# EAGLE library part MC1322X (library Railstars)
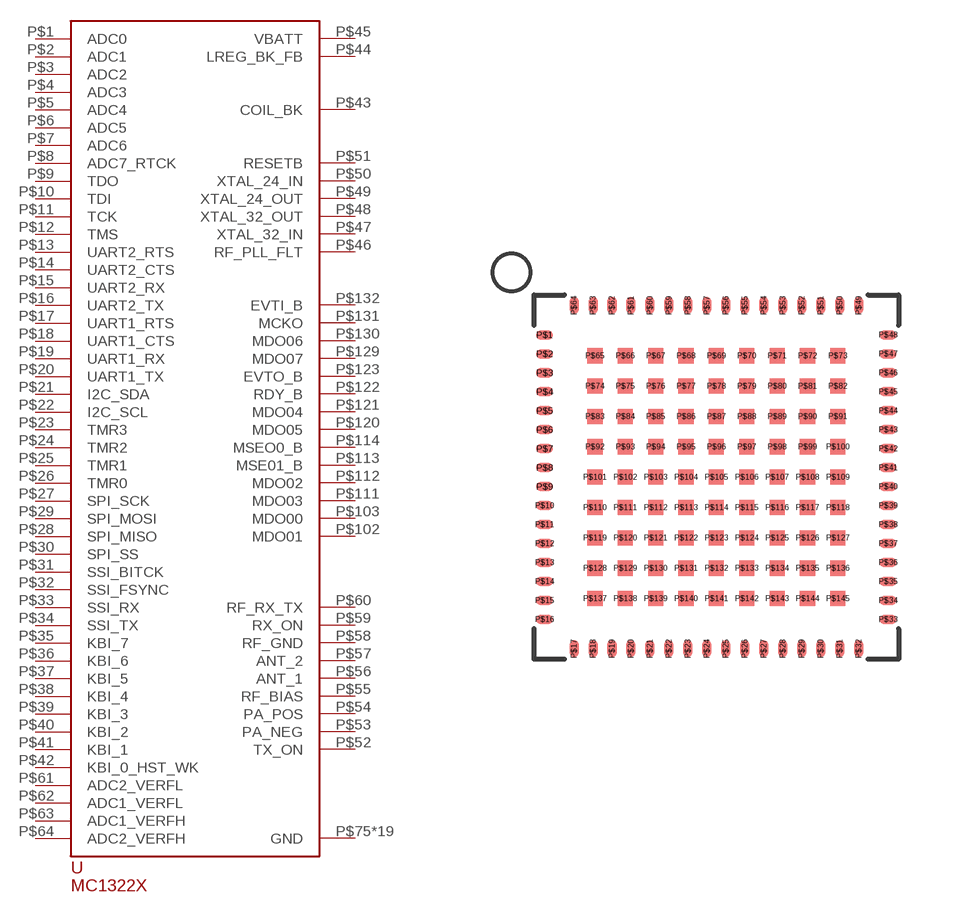
[diagram p21: symbol with the pads of LGA-145; footprint LGA-145]

Designator prefix -

## MC1322X  [LGA-145]
P$1  ADC0
P$2  ADC1
P$3  ADC2
P$4  ADC3
P$5  ADC4
P$6  ADC5
P$7  ADC6
P$8  ADC7_RTCK
P$9  TDO
P$10  TDI
P$11  TCK
P$12  TMS
P$13  UART2_RTS
P$14  UART2_CTS
P$15  UART2_RX
P$16  UART2_TX
P$17  UART1_RTS
P$18  UART1_CTS
P$19  UART1_RX
P$20  UART1_TX
P$21  I2C_SDA
P$22  I2C_SCL
P$23  TMR3
P$24  TMR2
P$25  TMR1
P$26  TMR0
P$27  SPI_SCK
P$28  SPI_MISO
P$29  SPI_MOSI
P$30  SPI_SS
P$31  SSI_BITCK
P$32  SSI_FSYNC
P$33  SSI_RX
P$34  SSI_TX
P$35  KBI_7
P$36  KBI_6
P$37  KBI_5
P$38  KBI_4
P$39  KBI_3
P$40  KBI_2
P$41  KBI_1
P$42  KBI_0_HST_WK
P$43  COIL_BK
P$44  LREG_BK_FB
P$45  VBATT
P$46  RF_PLL_FLT
P$47  XTAL_32_IN
P$48  XTAL_32_OUT
P$49  XTAL_24_OUT
P$50  XTAL_24_IN
P$51  RESETB
P$52  TX_ON
P$53  PA_NEG
P$54  PA_POS
P$55  RF_BIAS
P$56  ANT_1
P$57  ANT_2
P$58  RF_GND
P$59  RX_ON
P$60  RF_RX_TX
P$61  ADC2_VERFL
P$62  ADC1_VERFL
P$63  ADC1_VERFH
P$64  ADC2_VERFH
P$75  GND
P$76  GND
P$77  GND
P$78  GND
P$79  GND
P$84  GND
P$85  GND
P$86  GND
P$87  GND
P$88  GND
P$93  GND
P$94  GND
P$95  GND
P$96  GND
P$97  GND
P$102  MDO01
P$103  MDO00
P$104  GND
P$105  GND
P$106  GND
P$111  MDO03
P$112  MDO02
P$113  MSE01_B
P$114  MSEO0_B
P$115  GND
P$120  MDO05
P$121  MDO04
P$122  RDY_B
P$123  EVTO_B
P$129  MDO07
P$130  MDO06
P$131  MCKO
P$132  EVTI_B

## Footprint LGA-145 (pad centres in mm)
smd 0.45 x 0.25: P$1 -4.525,3.75; P$2 -4.525,3.25; P$3 -4.525,2.75; P$4 -4.525,2.25; P$5 -4.525,1.75; P$6 -4.525,1.25; P$7 -4.525,0.75; P$8 -4.525,0.25; P$9 -4.525,-0.25; P$10 -4.525,-0.75; P$11 -4.525,-1.25; P$12 -4.525,-1.75; P$13 -4.525,-2.25; P$14 -4.525,-2.75; P$15 -4.525,-3.25; P$16 -4.525,-3.75; P$33 4.525,-3.75; P$34 4.525,-3.25; P$35 4.525,-2.75; P$36 4.525,-2.25; P$37 4.525,-1.75; P$38 4.525,-1.25; P$39 4.525,-0.75; P$40 4.525,-0.25; P$41 4.525,0.25; P$42 4.525,0.75; P$43 4.525,1.25; P$44 4.525,1.75; P$45 4.525,2.25; P$46 4.525,2.75; P$47 4.525,3.25; P$48 4.525,3.75
smd 0.25 x 0.45: P$17 -3.75,-4.525; P$18 -3.25,-4.525; P$19 -2.75,-4.525; P$20 -2.25,-4.525; P$21 -1.75,-4.525; P$22 -1.25,-4.525; P$23 -0.75,-4.525; P$24 -0.25,-4.525; P$25 0.25,-4.525; P$26 0.75,-4.525; P$27 1.25,-4.525; P$28 1.75,-4.525; P$29 2.25,-4.525; P$30 2.75,-4.525; P$31 3.25,-4.525; P$32 3.75,-4.525; P$49 3.75,4.525; P$50 3.25,4.525; P$51 2.75,4.525; P$52 2.25,4.525; P$53 1.75,4.525; P$54 1.25,4.525; P$55 0.75,4.525; P$56 0.25,4.525; P$57 -0.25,4.525; P$58 -0.75,4.525; P$59 -1.25,4.525; P$60 -1.75,4.525; P$61 -2.25,4.525; P$62 -2.75,4.525; P$63 -3.25,4.525; P$64 -3.75,4.525
smd 0.4 x 0.4: P$65 -3.2,3.2; P$66 -2.4,3.2; P$67 -1.6,3.2; P$68 -0.8,3.2; P$69 0,3.2; P$70 0.8,3.2; P$71 1.6,3.2; P$72 2.4,3.2; P$73 3.2,3.2; P$74 -3.2,2.4; P$75 -2.4,2.4; P$76 -1.6,2.4; P$77 -0.8,2.4; P$78 0,2.4; P$79 0.8,2.4; P$80 1.6,2.4; P$81 2.4,2.4; P$82 3.2,2.4; P$83 -3.2,1.6; P$84 -2.4,1.6; P$85 -1.6,1.6; P$86 -0.8,1.6; P$87 0,1.6; P$88 0.8,1.6; P$89 1.6,1.6; P$90 2.4,1.6; P$91 3.2,1.6; P$92 -3.2,0.8; P$93 -2.4,0.8; P$94 -1.6,0.8; P$95 -0.8,0.8; P$96 0,0.8; P$97 0.8,0.8; P$98 1.6,0.8; P$99 2.4,0.8; P$100 3.2,0.8; P$101 -3.2,0; P$102 -2.4,0; P$103 -1.6,0; P$104 -0.8,0; P$105 0,0; P$106 0.8,0; P$107 1.6,0; P$108 2.4,0; P$109 3.2,0; P$110 -3.2,-0.8; P$111 -2.4,-0.8; P$112 -1.6,-0.8; P$113 -0.8,-0.8; P$114 0,-0.8; P$115 0.8,-0.8; P$116 1.6,-0.8; P$117 2.4,-0.8; P$118 3.2,-0.8; P$119 -3.2,-1.6; P$120 -2.4,-1.6; P$121 -1.6,-1.6; P$122 -0.8,-1.6; P$123 0,-1.6; P$124 0.8,-1.6; P$125 1.6,-1.6; P$126 2.4,-1.6; P$127 3.2,-1.6; P$128 -3.2,-2.4; P$129 -2.4,-2.4; P$130 -1.6,-2.4; P$131 -0.8,-2.4; P$132 0,-2.4; P$133 0.8,-2.4; P$134 1.6,-2.4; P$135 2.4,-2.4; P$136 3.2,-2.4; P$137 -3.2,-3.2; P$138 -2.4,-3.2; P$139 -1.6,-3.2; P$140 -0.8,-3.2; P$141 0,-3.2; P$142 0.8,-3.2; P$143 1.6,-3.2; P$144 2.4,-3.2; P$145 3.2,-3.2